# EAGLE library part SCIOSENSE_ENS160 (library FlashPCB_Sensors)
ENS160 - Air Quality, Carbon Dioxide (CO2), Metal Oxide (MOX) Sensor I²C, SPI Technical Specifications: Type: Air Quality, Carbon Dioxide (CO2), Metal Oxide (MOX) Output: I²C, SPI Operating Temperature: -40°C ~ 85°C Voltage - Supply: 1.71V ~ 1.98V Current - Supply: 10µA Component Search: [DATA SHEET NAME] <[FLASHPCB URL]> Datasheet: ENS160 <https://www.mouser.com/datasheet/2/1081/SC_001224_DS_1_ENS160_Datasheet_Rev_0_95-2258311.pdf>
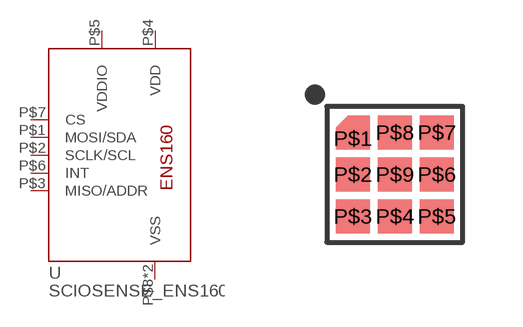
[diagram p20: symbol with the pads of LGA9-3X3; footprint LGA9-3X3]

Designator prefix U

## SCIOSENSE_ENS160  [LGA9-3X3]
P$1  MOSI/SDA
P$2  SCLK/SCL
P$3  MISO/ADDR
P$4  VDD
P$5  VDDIO
P$6  INT
P$7  CS
P$8  VSS
P$9  VSS

## Footprint LGA9-3X3 (pad centres in mm)
smd 0.85 x 0.55: P$1 -1.05,0.9
smd 0.85 x 0.85: P$2 -1.05,0; P$3 -1.05,-1.05; P$4 0,-1.05; P$5 1.05,-1.05; P$6 1.05,0; P$7 1.05,1.05; P$8 0,1.05; P$9 0,0